# Altium schematic symbol library Antenna.Schlib: 1 symbol
Pins are listed as number, name and electrical type; pins without a type are passive.

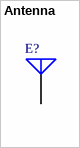
[diagram p0: symbol Antenna]

## Antenna
designator E?
Generic Antenna
pins: 1 A